# Altium footprint library PCB - RELAY - TE 3-1462039-8.PCBLIB: 1 footprints
Each footprint in its own frame and in the unit in brackets; x right, y up, seen from the top. Pads: shape width x height; smd on the part's side, far side on the other; paste and mask are expansions set on the pad; w line width, h text height; cw(c..) or ccw(c..) is an arc to the next point about the centre after c.
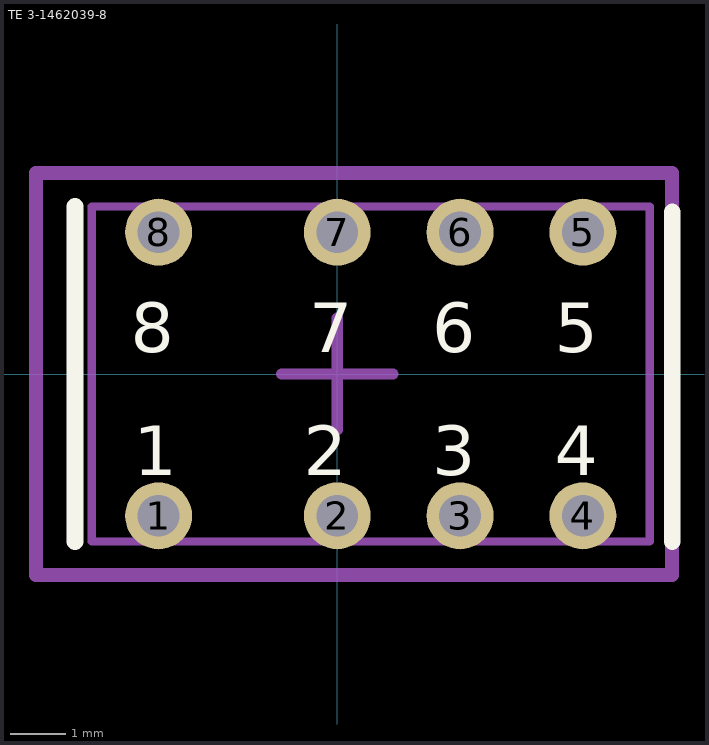
[diagram p0: the footprint, top view; thin cyan lines are the x and y axes]

## TE 3-1462039-8 [mm]
height 5.2
pads (8):
  round 1.2 hole 0.75: 1(-3.2,-2.54) 2(0,-2.54) 3(2.2,-2.54) 4(4.4,-2.54) 5(4.4,2.54) 6(2.2,2.54) 7(0,2.54) 8(-3.2,2.54)
Top Overlay:
  lines w0.3: -4.7,-3 -4.7,3 ; 6,-3 6,2.9
  text "1" at -3.65,-1.812 h0.89
  text "2" at -0.599,-1.812 h0.89
  text "3" at 1.701,-1.812 h0.89
  text "4" at 3.901,-1.812 h0.89
  text "8" at -3.699,0.388 h0.89
  text "7" at -0.499,0.388 h0.89
  text "6" at 1.701,0.388 h0.89
  text "5" at 3.901,0.388 h0.89
Mechanical 1:
  lines w0.15: -4.4,-3 -4.4,3 5.6,3 5.6,-3 -4.4,-3
Mechanical 15:
  lines w0.2: -1,0 1,0 ; 0,-1 0,1
  lines w0.25: -5.4,-3.6 -5.4,3.6 6,3.6 6,-3.6 -5.4,-3.6
3D body "TE Connecttivity - 3-1462039-8.stp": height 5.4, standoff -3.45, extent -4.4,-3 5.6,3